# EAGLE library part JST-SH-5 (library NixieDisplay)
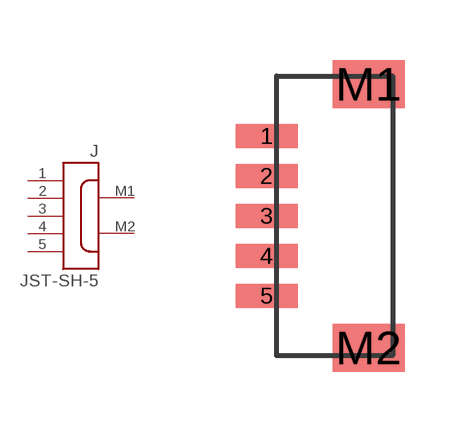
[diagram p4: symbol with the pads of JST-SH-5; footprint JST-SH-5]

Designator prefix J

## JST-SH-5  [JST-SH-5]
1  1  pas
2  2  pas
3  3  pas
4  4  pas
5  5  pas
M1  MNT1
M2  MNT2

## Footprint JST-SH-5 (pad centres in mm)
smd 1.55 x 0.6: 1 -1.27,2; 2 -1.27,1; 3 -1.27,0; 4 -1.27,-1; 5 -1.27,-2
smd 1.8 x 1.2: M1 1.28,3.3; M2 1.28,-3.3